# Altium footprint library POWR0001_BCR_LT1513.PcbLib: 5 footprints
Each footprint in its own frame and in the unit in brackets; x right, y up, seen from the top. Pads: shape width x height; smd on the part's side, far side on the other; paste and mask are expansions set on the pad; w line width, h text height; cw(c..) or ccw(c..) is an arc to the next point about the centre after c.
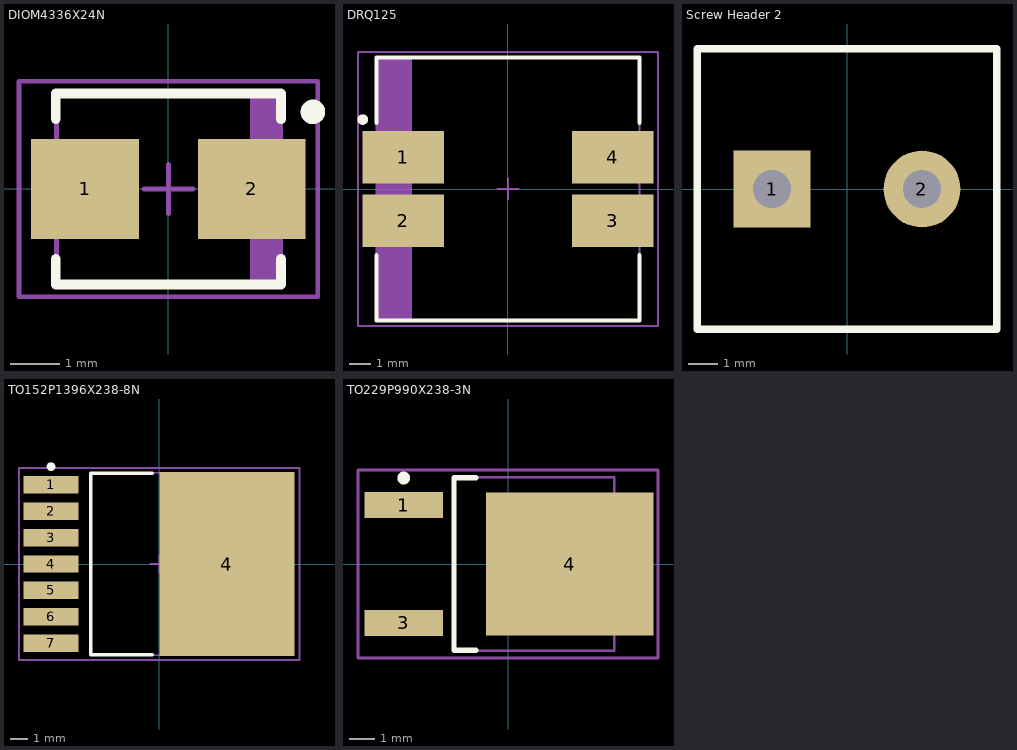
[diagram p0: the footprints below, top view; thin cyan lines are the x and y axes]

## DIOM4336X24N [mm] "Molded Diode, 2-Leads, Body 4.3x3.6mm, IPC Medium Density"
height 2.41
pads (2):
  rect 2.2x2.05 smd: 1(-1.7,0) 2(1.7,0)
Top Overlay:
  circle w0.25: c2.95,1.575 r0.125
  lines w0.2: -2.3,-1.425 -2.3,-1.95 2.3,-1.95 2.3,-1.425 ; -2.3,1.425 -2.3,1.95 2.3,1.95 2.3,1.425
Mechanical 13:
  rectangle: 1.67,-1.905 2.285,1.905
  lines w0.1: -2.285,-1.905 2.285,-1.905 2.285,1.905 -2.285,1.905 -2.285,-1.905
Mechanical 15:
  lines w0.1: -0.5,0 0.5,0 ; 0,-0.5 0,0.5 ; -3.05,-2.2 3.05,-2.2 3.05,2.2 -3.05,2.2 -3.05,-2.2
3D body: height 2.41, standoff 0, extent -2.285,-1.905 2.285,1.905

## DRQ125 [mm]
height 6
pads (4):
  rect 3.85x2.5 smd: 1(-4.975,1.5) 2(-4.975,-1.5) 3(4.975,-1.5) 4(4.975,1.5)
Top Overlay:
  circle w0.25: c-6.9,3.3 r0.125
  lines w0.2: -6.25,-3.15 -6.25,-6.25 6.25,-6.25 6.25,-3.15 ; -6.25,3.15 -6.25,6.25 6.25,6.25 6.25,3.15
Mechanical 13:
  rectangle: -6.25,-6.25 -4.569,6.25
  lines w0.1: -6.25,-6.25 -6.25,6.25 6.25,6.25 6.25,-6.25 -6.25,-6.25
Mechanical 15:
  lines w0.1: -0.5,0 0.5,0 ; 0,-0.5 0,0.5 ; -7.125,-6.5 -7.125,6.5 7.125,6.5 7.125,-6.5 -7.125,-6.5
3D body: height 6, standoff 0, extent -6.25,-6.25 6.25,6.25

## Screw Header 2 [mm] "2 pin PCB screw header, 5.08 mm pin spacing"
height 15
pads (2):
  rect 2.6x2.6 hole 1.3: 1(-2.54,0)
  round 2.6 hole 1.3: 2(2.54,0)
Top Overlay:
  lines w0.254: -5.08,-4.75 -5.08,4.75 5.08,4.75 5.08,-4.75 -5.08,-4.75

## TO152P1396X238-8N [mm] "D2-PAK, 8-Pads, Body 9.4x10.5mm (max), IPC Medium Density"
height 2.38
pads (8):
  rect 3.2x1 smd: 1(-6.25,4.572) 2(-6.25,3.048) 3(-6.25,1.524) 4(-6.25,0) 5(-6.25,-1.524) 6(-6.25,-3.048) 7(-6.25,-4.572)
  rect 7.8x10.65 smd: 4(3.9,0)
Top Overlay:
  circle w0.25: c-6.25,5.622 r0.125
  lines w0.2: -0.4,-5.25 -3.95,-5.25 -3.95,5.25 -0.4,5.25
Mechanical 13:
  lines w0.1: -3.95,-5.275 5.45,-5.275 5.45,5.275 -3.95,5.275 -3.95,-5.275
Mechanical 15:
  lines w0.1: -0.5,0 0.5,0 ; 0,-0.5 0,0.5 ; -8.1,-5.55 8.1,-5.55 8.1,5.55 -8.1,5.55 -8.1,-5.55
3D body: height 2.38, standoff 0, extent -3.95,-5.275 5.45,5.275

## TO229P990X238-3N [mm] "D-PAK, 3-Pads, Body 6.2x6.7mm (max), IPC Medium Density"
height 2.38
pads (3):
  rect 3.05x1 smd: 1(-4.05,2.29) 3(-4.05,-2.29)
  rect 6.5x5.55 smd: 4(2.4,0)
Top Overlay:
  circle w0.25: c-4.05,3.34 r0.125
  lines w0.2: -1.25,-3.35 -2.1,-3.35 -2.1,3.35 -1.25,3.35
Mechanical 13:
  lines w0.1: -2.1,-3.375 4.12,-3.375 4.12,3.375 -2.1,3.375 -2.1,-3.375
Mechanical 15:
  lines w0.1: -0.5,0 0.5,0 ; 0,-0.5 0,0.5 ; -5.825,-3.65 5.825,-3.65 5.825,3.65 -5.825,3.65 -5.825,-3.65
3D body: height 2.38, standoff 0, extent -2.1,-3.375 4.12,3.375